# Altium schematic symbol library SCH - POWER - LINEAR VREG - TI TPS7A3501DRV.SchLib: 1 symbol
Pins are listed as number, name and electrical type; pins without a type are passive.

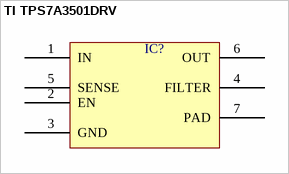
[diagram p0: symbol TI TPS7A3501DRV]

## TI TPS7A3501DRV
designator IC?  (value not drawn)
pins: 1 IN, 2 EN, 3 GND, 4 FILTER, 5 SENSE, 6 OUT, 7 PAD